# Altium footprint library GateWay.PcbLib: 34 footprints (part 3 of 3)
Each footprint in its own frame and in the unit in brackets; x right, y up, seen from the top. Pads: shape width x height; smd on the part's side, far side on the other; paste and mask are expansions set on the pad; w line width, h text height; cw(c..) or ccw(c..) is an arc to the next point about the centre after c.
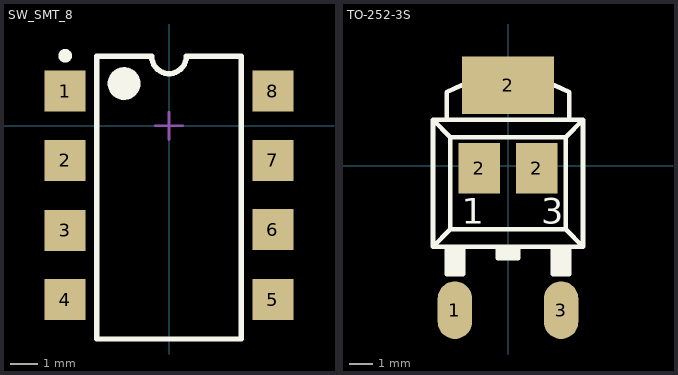
[diagram p2: the footprints below, top view; thin cyan lines are the x and y axes]

## SW_SMT_8 [mm] "DIP; 4 Leads; Row Spacing 7.62 mm; Pitch 2.54 mm"
height 5.6
pads (8):
  rect 1.5x1.5 smd: 1(-3.81,1.27) 2(-3.81,-1.27) 3(-3.81,-3.835) 4(-3.81,-6.375) 5(3.81,-6.375) 6(3.81,-3.81) 7(3.81,-1.27) 8(3.81,1.27)
Top Overlay:
  circle w0.25: c-3.81,2.57 r0.125
  circle w0.6: c-1.65,1.55 r0.3
  lines w0.2: -2.65,-7.823 -2.65,2.55 -0.635,2.55 ccw(c0,2.55) 0.635,2.55 2.65,2.55 2.65,-7.823 -2.65,-7.823
Mechanical 15:
  lines w0.1: -0.5,0 0.5,0 ; 0,-0.5 0,0.5

## TO-252-3S [mm]
height 1.18
pads (5):
  oval 1.5x2.5 smd: 1(-2.3,-6.25) 3(2.3,-6.25)
  rect 1.8x2.2 smd: 2(-1.25,-0.1) 2(1.25,-0.1)
  rect 4x2.5 smd: 2(0,3.5)
Top Overlay:
  rectangle: -2.65,-4.7 -1.95,-3.5
  rectangle: -0.45,-4 0.45,-3.5
  rectangle: 1.95,-4.7 2.65,-3.5
  lines w0.2: -2.65,-3.5 -2.65,-4.7 -1.95,-4.7 -1.95,-3.5 ; -2.65,2 -2.65,3.2 -2,3.5 2,3.5 2.65,3.2 2.65,2 ; -0.45,-3.5 -0.45,-4 0.45,-4 0.45,-3.5 ; 1.95,-3.5 1.95,-4.7 2.65,-4.7 2.65,-3.5 ; -3.25,-3.5 3.25,-3.5 ; -3.25,-3.5 -3.25,2 ; -3.25,-3.5 -2.5,-2.75 ; -3.25,2 3.25,2 ; -3.25,2 -2.5,1.25 ; -2.5,-2.75 -2.5,1.25 ; -2.5,-2.75 2.5,-2.75 ; -2.5,1.25 2.5,1.25 ; 2.5,1.25 2.5,-2.75 ; 2.5,1.25 3.25,2 ; 2.5,-2.75 3.25,-3.5 ; 3.25,-3.5 3.25,2
  text "3" at 1.45,-2.5 h1.1
  text "1" at -2,-2.5 h1.1